# EAGLE library part MPT14 (library pluggable_terminal_blocks)
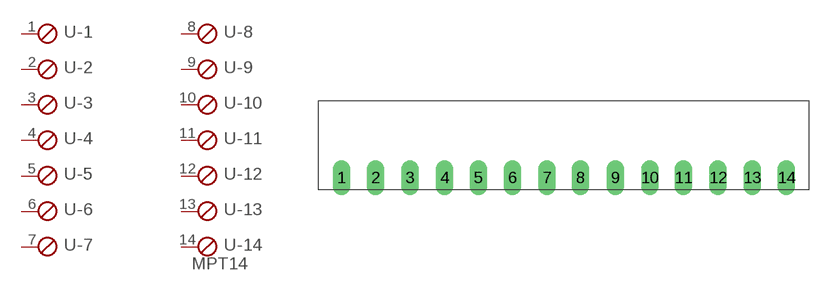
[diagram p7: symbol with the pads of 14POL35; footprint 14POL35]

Designator prefix -; gates -1=SKB -2=SKB -3=SKB -4=SKB -5=SKB -6=SKB -7=SKB -8=SKB -9=SKB -10=SKB -11=SKB -12=SKB -13=SKB -14=SKBV

## MPT14  [14POL35]
1  -1:1  pas
2  -2:1  pas
3  -3:1  pas
4  -4:1  pas
5  -5:1  pas
6  -6:1  pas
7  -7:1  pas
8  -8:1  pas
9  -9:1  pas
10  -10:1  pas
11  -11:1  pas
12  -12:1  pas
13  -13:1  pas
14  -14:1  pas

## Footprint 14POL35 (pad centres in mm)
drill 1.2 long: 1 -22.77,0; 2 -19.28,0; 3 -15.74,0; 4 -12.2,0; 5 -8.76,0; 6 -5.27,0; 7 -1.73,0; 8 1.71,0; 9 5.25,0; 10 8.79,0; 11 12.23,0; 12 15.77,0; 13 19.27,0; 14 22.77,0